# EAGLE library part RFM12B (library matt)
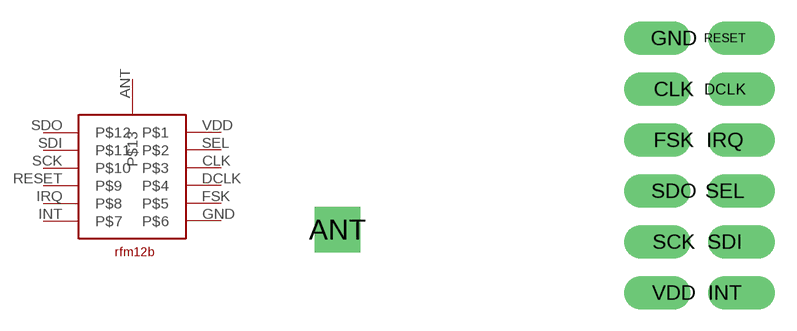
[diagram p0: symbol with the pads of HOPERFM12B; footprint HOPERFM12B]

Designator prefix -

## RFM12B  [HOPERFM12B]
ANT  P$13
CLK  P$3
DCLK  P$4
FSK  P$5
GND  P$6
INT  P$7
IRQ  P$8
RESET  P$9
SCK  P$10
SDI  P$11
SDO  P$12
SEL  P$2
VDD  P$1

## Footprint HOPERFM12B (pad centres in mm)
drill 0.8 pad 1.778 square: ANT -8.473,-2.254
drill 0.8 offset: CLK 4.73,3.27; DCLK 6.73,3.27; FSK 4.73,1.27; GND 4.73,5.27; INT 6.73,-4.73; IRQ 6.73,1.27; RESET 6.73,5.27; SCK 4.73,-2.73; SDI 6.73,-2.73; SDO 4.73,-0.73; SEL 6.73,-0.73; VDD 4.73,-4.73